# Altium footprint library tempLibPCB.PcbLib: 2 footprints
Each footprint in its own frame and in the unit in brackets; x right, y up, seen from the top. Pads: shape width x height; smd on the part's side, far side on the other; paste and mask are expansions set on the pad; w line width, h text height; cw(c..) or ccw(c..) is an arc to the next point about the centre after c.
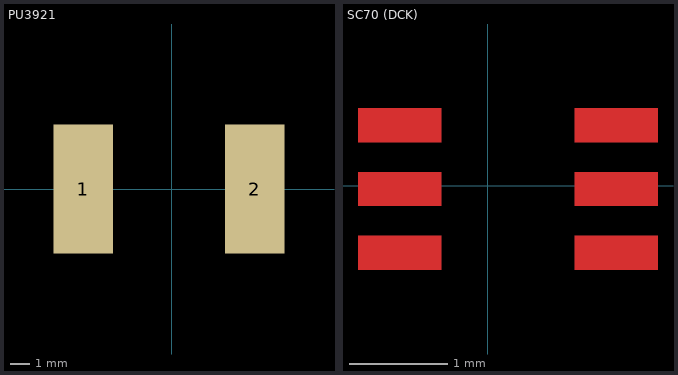
[diagram p0: the footprints below, top view; thin cyan lines are the x and y axes]

## PU3921 [mm] "Shunt Resistor PU series"
height 0.5
pads (2):
  rect 3x6.45 smd: 1(-4.445,0) 2(4.155,0)

## SC70 (DCK) [mm] "6 pin"
Top Layer:
  rectangle: 0.881,0.442 1.731,0.792
  rectangle: 0.881,-0.208 1.731,0.142
  rectangle: 0.881,-0.858 1.731,-0.508
  rectangle: -1.319,0.442 -0.469,0.792
  rectangle: -1.319,-0.208 -0.469,0.142
  rectangle: -1.319,-0.858 -0.469,-0.508
  rectangle: -1.319,0.442 -0.469,0.792
  rectangle: -1.319,-0.208 -0.469,0.142
  rectangle: -1.319,-0.858 -0.469,-0.508